# Altium schematic symbol library Module.SchLib: 12 symbols
Pins are listed as number, name and electrical type; pins without a type are passive.

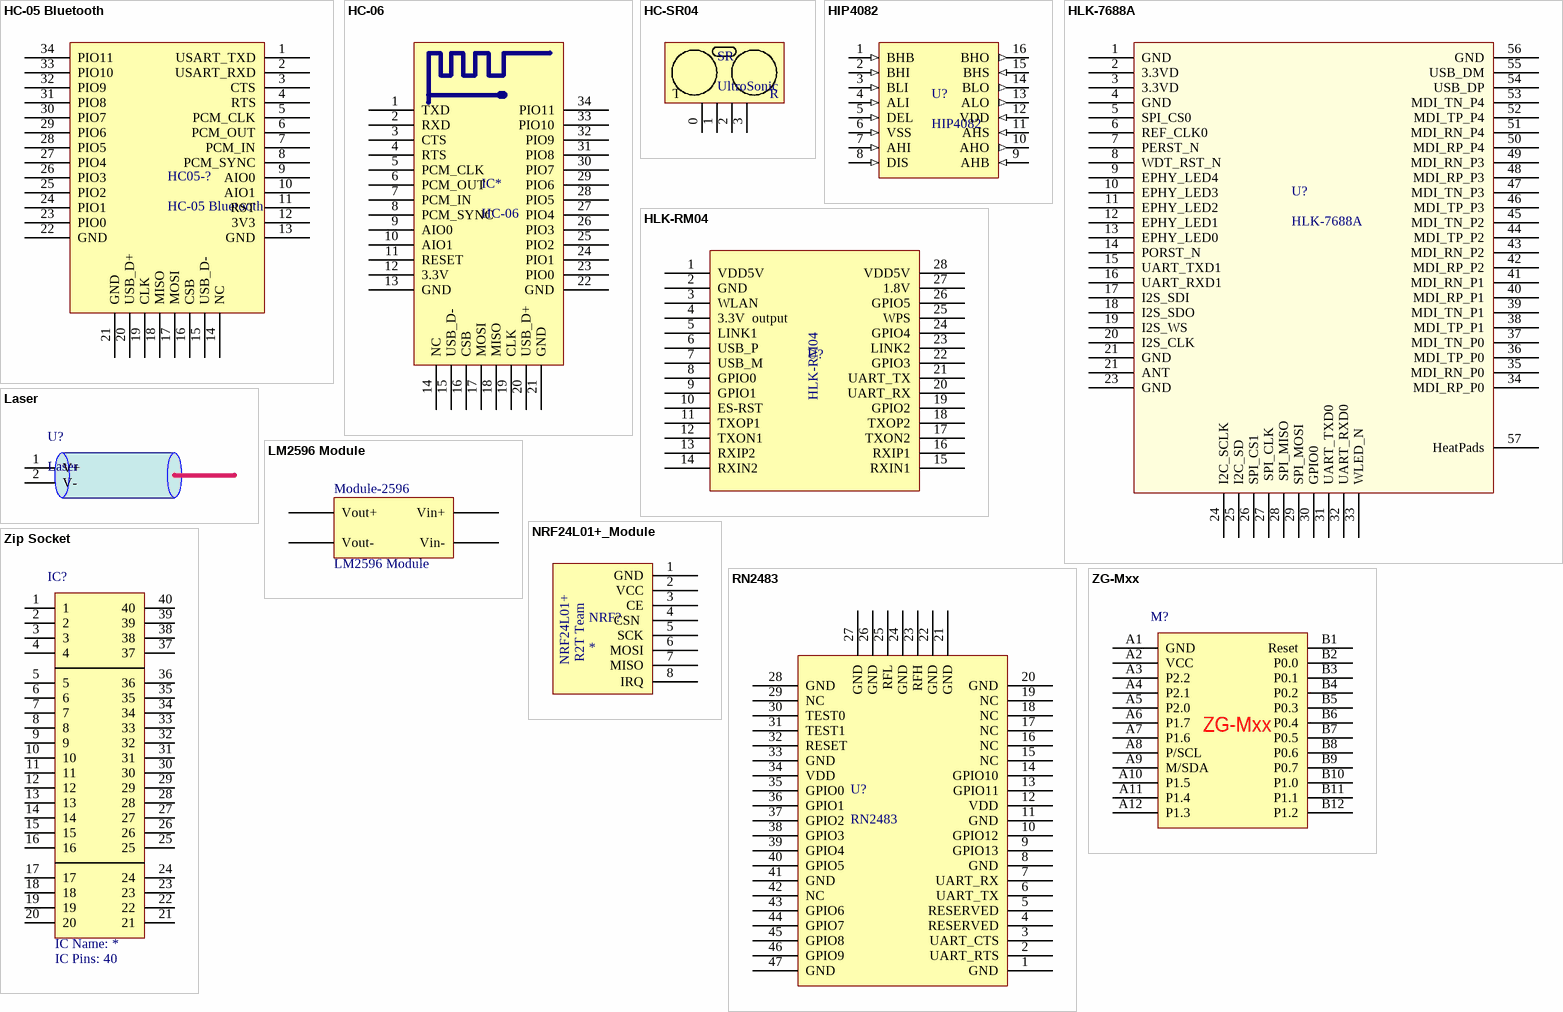
[diagram p0: symbols HC-05 Bluetooth to Zip Socket]

## HC-05 Bluetooth
designator HC05-?
footprint HC-05
pins: 1 USART_TXD, 2 USART_RXD, 3 CTS, 4 RTS, 5 PCM_CLK, 6 PCM_OUT, 7 PCM_IN, 8 PCM_SYNC, 9 AIO0, 10 AIO1, 11 RST, 12 3V3, 13 GND, 14 NC, 15 USB_D-, 16 CSB, 17 MOSI, 18 MISO, 19 CLK, 20 USB_D+, 21 GND, 22 GND, 23 PIO0, 24 PIO1, 25 PIO2, 26 PIO3, 27 PIO4, 28 PIO5, 29 PIO6, 30 PIO7, 31 PIO8, 32 PIO9, 33 PIO10, 34 PIO11

## HC-06
designator IC*
无线蓝牙模块2.0
footprint HC-06 (无线蓝牙模块2.0)
pins: 1 TXD, 2 RXD, 3 CTS, 4 RTS, 5 PCM_CLK, 6 PCM_OUT, 7 PCM_IN, 8 PCM_SYNC, 9 AIO0, 10 AIO1, 11 RESET, 12 3.3V, 13 GND, 14 NC, 15 USB_D-, 16 CSB, 17 MOSI, 18 MISO, 19 CLK, 20 USB_D+, 21 GND, 22 GND, 23 PIO0, 24 PIO1, 25 PIO2, 26 PIO3, 27 PIO4, 28 PIO5, 29 PIO6, 30 PIO7, 31 PIO8, 32 PIO9, 33 PIO10, 34 PIO11

## HC-SR04
designator SR, comment UltroSonic
超声波测距模块
footprint HC-SR04 (超声波测距模块)
pins: 0 VCC, 1 Trig, 2 Echo, 3 GND
text: T; R

## HIP4082
designator U?
footprint SOIC16-Hip4082
footprint DIP16-Hip4082
pins: 1 BHB (in), 2 BHI (in), 3 BLI (in), 4 ALI (in), 5 DEL (in), 6 VSS (in), 7 AHI (in), 8 DIS (in), 9 AHB (in), 10 AHO (out), 11 AHS (in), 12 VDD (in), 13 ALO (out), 14 BLO (out), 15 BHS (in), 16 BHO (out)

## HLK-7688A
designator U?
footprint HLK-7688A
pins: 1 GND, 2 3.3VD, 3 3.3VD, 4 GND, 5 SPI_CS0, 6 REF_CLK0, 7 PERST_N, 8 WDT_RST_N, 9 EPHY_LED4, 10 EPHY_LED3, 11 EPHY_LED2, 12 EPHY_LED1, 13 EPHY_LED0, 14 PORST_N, 15 UART_TXD1, 16 UART_RXD1, 17 I2S_SDI, 18 I2S_SDO, 19 I2S_WS, 20 I2S_CLK, 21 GND, 21 ANT, 23 GND, 24 I2C_SCLK, 25 I2C_SD, 26 SPI_CS1, 27  SPI_CLK, 28  SPI_MISO, 29 SPI_MOSI, 30 GPIO0, 31 UART_TXD0, 32 UART_RXD0, 33 WLED_N, 34 MDI_RP_P0, 35 MDI_RN_P0, 36 MDI_TP_P0, 37 MDI_TN_P0, 38 MDI_TP_P1, 39 MDI_TN_P1, 40 MDI_RP_P1, 41 MDI_RN_P1, 42 MDI_RP_P2, 43 MDI_RN_P2, 44  MDI_TP_P2, 45 MDI_TN_P2, 46 MDI_TP_P3, 47 MDI_TN_P3, 48 MDI_RP_P3, 49 MDI_RN_P3, 50 MDI_RP_P4, 51  MDI_RN_P4, 52 MDI_TP_P4, 53 MDI_TN_P4, 54 USB_DP, 55 USB_DM, 56 GND, 57 HeatPads

## HLK-RM04
designator U?  (value not drawn)
footprint HLK-RM04
pins: 1 VDD5V, 2 GND, 3 WLAN, 4 3.3V  output, 5 LINK1 , 6 USB_P , 7 USB_M, 8 GPIO0, 9 GPIO1, 10 ES-RST, 11 TXOP1, 12 TXON1, 13 RXIP2, 14 RXIN2, 15 RXIN1, 16 RXIP1, 17 TXON2, 18 TXOP2, 19 GPIO2, 20 UART_RX, 21 UART_TX, 22 GPIO3, 23 LINK2, 24 GPIO4, 25 WPS, 26 GPIO5, 27 1.8V, 28 VDD5V

## Laser
designator U?
Designer: Saeid Jorablo; Company: Personal; Project Name: Abtahi; Adding Date: 10/21/2009; Wave Lenght: *; Power: *; Voltage: *
footprint Laser
pins: 1 V+, 2 V-

## LM2596 Module
designator Module-2596
footprint LM2596 Module
pins: 1 Vin+, 2 Vin-, 3 Vout+, 4 Vout-

## NRF24L01+_Module
designator NRF?
Designer:: HamedJafarzadeh
footprint NRF24L01+_Module
footprint NRF24L01+_Module-LNA+PA
footprint NRF24L01P_SMD
pins: 1 GND, 2 VCC, 3 CE, 4 CSN , 5 SCK, 6 MOSI, 7 MISO, 8 IRQ
text: NRF24L01+; R2T Team

## RN2483
designator U?
RN2483 - Microchip
footprint RN2483 (RN2483_MICROCHIP)
pins: 1 GND, 2 UART_RTS, 3 UART_CTS, 4 RESERVED, 5 RESERVED, 6 UART_TX, 7 UART_RX, 8 GND, 9 GPIO13, 10 GPIO12, 11 GND, 12 VDD, 13 GPIO11, 14 GPIO10, 15 NC, 16 NC, 17 NC, 18 NC, 19 NC, 20 GND, 21 GND, 22 GND, 23 RFH, 24 GND, 25 RFL, 26 GND, 27 GND, 28 GND, 29 NC, 30 TEST0, 31 TEST1, 32 RESET, 33 GND, 34 VDD, 35 GPIO0, 36 GPIO1, 37 GPIO2, 38 GPIO3, 39 GPIO4, 40 GPIO5, 41 GND, 42 NC, 43 GPIO6, 44 GPIO7, 45 GPIO8, 46 GPIO9, 47 GND

## ZG-Mxx
designator M?
Zigbee Ghostyu
footprint ZG-M0
footprint ZG-M1/1E
footprint ZG-M0/M1/M1E
pins: A1 GND, A2 VCC, A3 P2.2, A4 P2.1, A5 P2.0, A6 P1.7, A7 P1.6, A8 P/SCL, A9 M/SDA, A10 P1.5, A11 P1.4, A12 P1.3, B1 Reset, B2 P0.0, B3 P0.1, B4 P0.2, B5 P0.3, B6 P0.4, B7 P0.5, B8 P0.6, B9 P0.7, B10 P1.0, B11 P1.1, B12 P1.2

## Zip Socket
designator IC?  IC Pins: 40  (hidden comment: Zip Socket)
Zip/Zif Socket; Company: ECI CO.; Adding Date: 11/25/2011; IC Name: *
footprint Zip Socket
pins: 1, 2, 3, 4, 5, 6, 7, 8, 9, 10, 11, 12, 13, 14, 15, 16, 17, 18, 19, 20, 21, 22, 23, 24, 25, 26, 27, 28, 29, 30, 31, 32, 33, 34, 35, 36, 37, 38, 39, 40